# EAGLE library part DRV8833 (library aetel)
Texas Instruments DRV8833 Motor driver
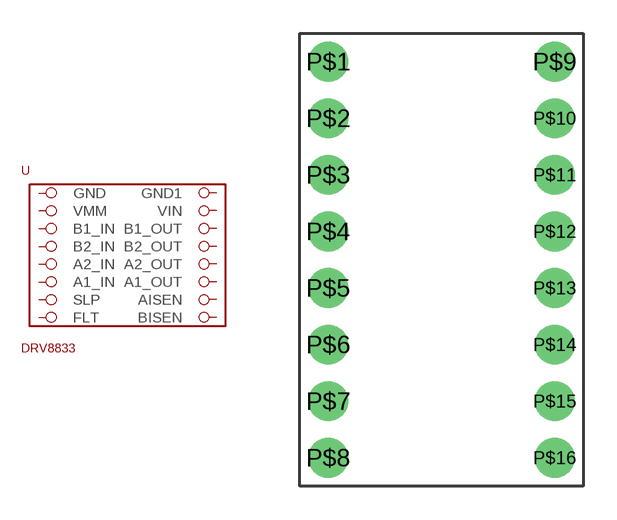
[diagram p1: symbol with the pads of 16-PIN_HTSSOP; footprint 16-PIN_HTSSOP]

Designator prefix -

## DRV8833  [16-PIN_HTSSOP]
P$1  GND
P$2  VMM
P$3  B1_IN
P$4  B2_IN
P$5  A2_IN
P$6  A1_IN
P$7  SLP
P$8  FLT
P$9  GND1
P$10  VIN
P$11  B1_OUT
P$12  B2_OUT
P$13  A2_OUT
P$14  A1_OUT
P$15  AISEN
P$16  BISEN

## Footprint 16-PIN_HTSSOP (pad centres in mm)
Texas Instruments DRV8833 Motor Driver
drill 0.8 pad 1.778: P$1 -5.08,7.62; P$2 -5.08,5.08; P$3 -5.08,2.54; P$4 -5.08,0; P$5 -5.08,-2.54; P$6 -5.08,-5.08; P$7 -5.08,-7.62; P$8 -5.08,-10.16; P$9 5.08,7.62; P$10 5.08,5.08; P$11 5.08,2.54; P$12 5.08,0; P$13 5.08,-2.54; P$14 5.08,-5.08; P$15 5.08,-7.62; P$16 5.08,-10.16